# Altium schematic symbol library xbreak.SchLib: 28 symbols
Pins are listed as number, name and electrical type; pins without a type are passive.

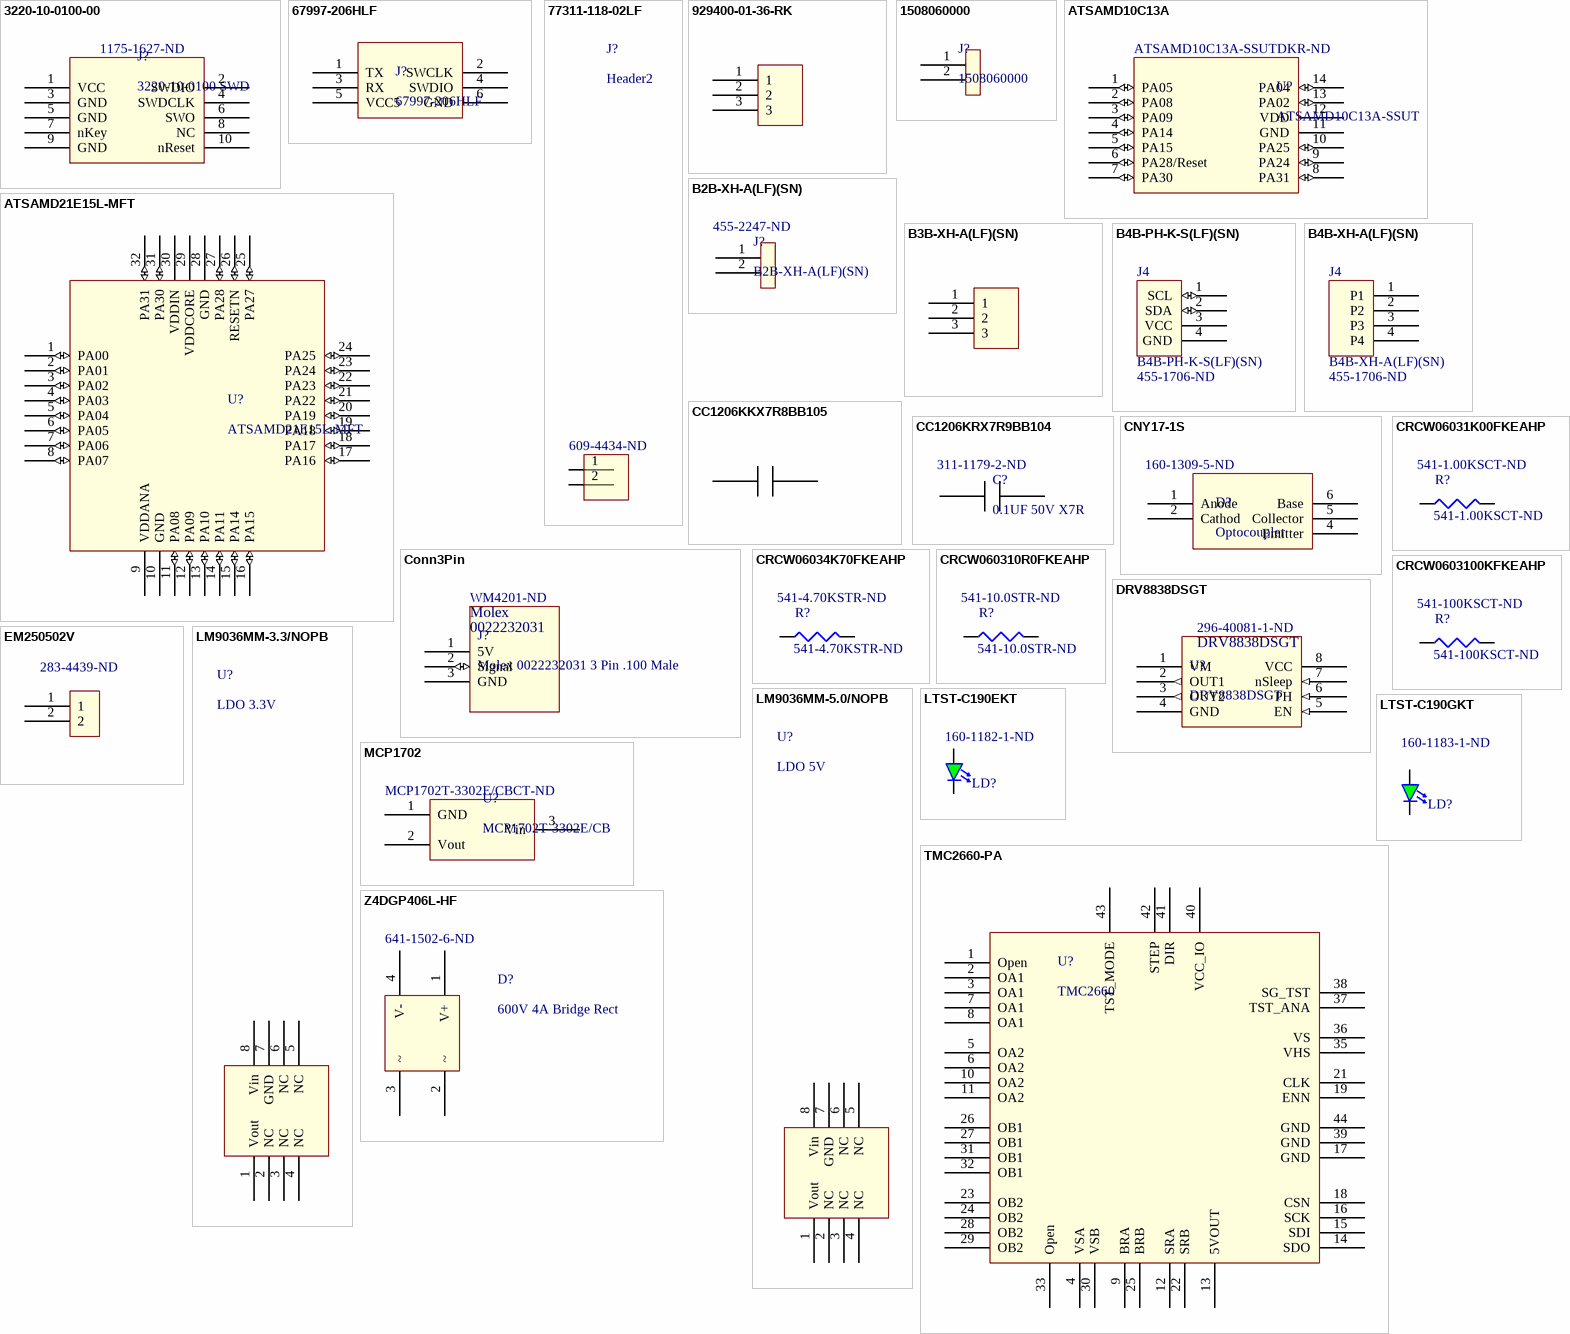
[diagram p0: symbols 3220-10-0100-00 to Z4DGP406L-HF]

## 3220-10-0100-00
designator J?, comment 3220-10-0100 SWD  Supplier Part Number 1: 1175-1627-ND
HiRose 3220-10-0100 BOX HEADER, 0.050 10 POS; Supplier 1: Digi-Key
footprint 3220-10-0100
pins: 1 VCC, 2 SWDIO "GND", 3 GND, 4 SWDCLK "GND", 5 GND, 6 SWO "SWD", 7 nKey, 8 NC, 9 GND, 10 nReset

## 67997-206HLF
designator J?
CONN HEADER 6POS .100 STR 15AU - Amphenol FCI 67997-206HLF; Supplier Part Number 1: 67997-206HLF
footprint 67997-206HLF
pins: 1 TX, 2 SWCLK, 3 RX, 4 SWDIO, 5 VCC5, 6 GND

## 77311-118-02LF
designator J?, comment Header2  Supplier Part Number 1: 609-4434-ND
CONN HEADER 2POS VERT T/H FCI 77311-118-02LF; Supplier 1: Digi-Key
footprint 77311-118-02LF (CONN HEADER 2POS VERT T/H)
pins: 1, 2

## 929400-01-36-RK
designator J?
3M 929400-01-36-RK CONN HEADER .100 SNGL STR 36POS - Use 3 Pin; Supplier 1: Digi-Key; Supplier Part Number 1: 929400E-01-36-ND
footprint 929400-01-36-RK (CONN HEADER .100 SNGL STR 36POS - 3 Positions Used)
pins: 1, 2 "1", 3 "1"

## 1508060000
designator J?
TERM BLOCK HDR 2POS R/A 5.08MM Weidmuller 1508060000; Supplier 1: Digi-Key; Supplier Part Number 1: 281-2920-ND
footprint 1508060000 (TERM BLOCK HDR 2POS R/A 5.08MM Weidmuller 1508060000)
pins: 1, 2

## ATSAMD10C13A
designator U?, comment ATSAMD10C13A-SSUT  Supplier Part Number 1: ATSAMD10C13A-SSUTDKR-ND
IC MCU 32BIT 8KB FLASH 14SOIC; Supplier 1: Digi-Key
footprint ATSAMD10C13A (SOIC, 14-Leads, Body 8.65x3.90mm, Pitch 1.27mm, Thermal Pad 4.00x3.00mm, IPC Medium Density)
pins: 1 PA05 (io), 2 PA08 (io), 3 PA09 (io), 4 PA14 (io), 5 PA15 (io), 6 PA28/Reset (io) "PA28/RESET", 7 PA30 (io), 8 PA31 (io), 9 PA24 (io), 10 PA25 (io), 11 GND (power), 12 VDD (power), 13 PA02 (io), 14 PA04 (io), 15 TPad hidden to GND

## ATSAMD21E15L-MFT
designator U?
IC MCU 32BIT 32KB FLASH 32QFN Atmel ATSAMD21E15L-MFT; Supplier Part Number 1: ATSAMD21E15L-MFT
footprint ATSAMD21E15L-MFT (Atmel QFN-32)
pins: 1 PA00 (io) "PA", 2 PA01 (io) "PA", 3 PA02 (io) "PA", 4 PA03 (io) "PA", 5 PA04 (io) "PA", 6 PA05 (io) "PA", 7 PA06 (io) "PA", 8 PA07 (io) "PA", 9 VDDANA (power), 10 GND (power), 11 PA08 (io) "PA", 12 PA09 (io) "PA", 13 PA10 (io) "PA", 14 PA11 (io) "PA", 15 PA14 (io) "PA", 16 PA15 (io) "PA", 17 PA16 (io) "PA", 18 PA17 (io) "PA", 19 PA18 (io) "PA", 20 PA19 (io) "PA", 21 PA22 (io) "PA", 22 PA23 (io) "PA", 23 PA24 (io) "PA", 24 PA25 (io) "PA", 25 PA27 (io) "PA", 26 RESETN (io), 27 PA28 (io) "PA", 28 GND (power), 29 VDDCORE (power), 30 VDDIN (power), 31 PA30 (io) "PA", 32 PA31 (io) "PA"

## B2B-XH-A(LF)(SN)
designator J?  Supplier Part Number 1: 455-2247-ND
CONN HEADER XH TOP 2POS 2.5MM  JST B2B-XH-A(LF)(SN); Supplier 1: Digi-Key
footprint 77311-118-02LF (CONN HEADER 2POS VERT T/H)
pins: 1, 2

## B3B-XH-A(LF)(SN)
designator J?, comment JST 3-PIN  Supplier Part Number 1: 455-2248-ND
CONN HEADER XH TOP 3POS 2.5MM JST B3B-XH-A(LF)(SN); Supplier 1: Digi-Key
footprint B3B-XH-A(LF)(SN) (CONN HEADER XH TOP 3POS 2.5MM)
pins: 1, 2 "1", 3 "1"

## B4B-PH-K-S(LF)(SN)
designator J4  Supplier Part Number 1: 455-1706-ND
Supplier 1: Digi-Key
footprint B4B-PH-K-S(LF)(SN) (B4B-PH-K-S(LF)(SN) 4 Pin JST Header)
pins: 1 SCL (io), 2 SDA (io), 3 VCC (power) "Power", 4 GND (power)

## B4B-XH-A(LF)(SN)
designator J4  Supplier Part Number 1: 455-1706-ND
CONN HEADER XH TOP 4POS 2.5MM JST B4B-XH-A(LF)(SN); Supplier 1: Digi-Key
footprint B4B-PH-K-S(LF)(SN) (B4B-PH-K-S(LF)(SN) 4 Pin JST Header)
pins: 1 P1, 2 P2, 3 P3, 4 P4

## CC1206KKX7R8BB105
designator C?, comment 1UF 25V X7R
CAP CER 1UF 25V X7R 1206 Yageo CC1206KKX7R8BB105; Supplier 1: Digi-Key; Supplier Part Number 1: 311-1356-2-ND
footprint C1206YageoX7R (Chip Capacitor, 2-Leads, Body 3.20x1.60mm, IPC Medium Density)
pins: 1, 2

## CC1206KRX7R9BB104
designator C?, comment 0.1UF 50V X7R  Supplier Part Number 1: 311-1179-2-ND
CAP CER 0.1UF 50V X7R 1206 YAGEO CC1206KRX7R9BB104; Supplier 1: Digi-Key
footprint C1206YageoX7R (Chip Capacitor, 2-Leads, Body 3.20x1.60mm, IPC Medium Density)
pins: 1, 2

## CNY17-1S
designator D?, comment Optocoupler  Supplier Part Number 1: 160-1309-5-ND
OPTOISO 5KV TRANS W/BASE 6SMD  Lite-On CNY17-1S; Supplier 1: Digi-Key
footprint CNY17-1S (Liteon 6SOT)
pins: 1 Anode, 2 Cathod, 3 NC hidden, 4 Emitter, 5 Collector, 6 Base

## Conn3Pin
designator J?, comment Molex 0022232031 3 Pin .100 Male  Supplier Part Number 1: WM4201-ND
Molex 3 Pin .100 With Retetion; Supplier 1: Digi-Key
footprint 022232031 (3 Pin .100 Pin Header  022232031)
pins: 1 5V (power) "VCC", 2 Signal (io), 3 GND (power) "Signal"
text: Molex; 0022232031

## CRCW06031K00FKEAHP
designator R?, comment 541-1.00KSCT-ND
Resistor 1K 1% 0603 CRCW06031K00FKEAHP; Published: 8-Jun-2000; LatestRevisionDate: 29-May-2009; LatestRevisionNote: IPC-7351 Footprint Added.; PackageReference: J1-0603; Publisher: Altium Limited; PackageDescription: Chip Resistor; Value: 1K; Supplier 1: Digi-Key; Supplier Part Number 1: 541-1.00KSCT-ND
footprint J1-0603 (Chip Resistor, Body 1.6x0.8mm, IPC High Density)
footprint 14-1210 (Chip Resistor, Body 3.2x2.5mm, IPC High Density)
footprint 12Z-2010 (Chip Resistor, Body 5.0x2.5mm, IPC High Density)
footprint RESC6332 (Chip Resistor, Body 6.3x3.2mm, IPC High Density)
simulation model RESISTOR (Resistor)
signal-integrity model Res
pins: 1, 2

## CRCW06034K70FKEAHP
designator R?, comment 541-4.70KSTR-ND
Resistor 4.7K 1% 0603 Vishay CRCW06034K70FKEAHP; Value: 1K; Published: 8-Jun-2000; LatestRevisionDate: 29-May-2009; LatestRevisionNote: IPC-7351 Footprint Added.; PackageReference: J1-0603; Publisher: Altium Limited; PackageDescription: Chip Resistor; Supplier 1: Digi-Key; Supplier Part Number 1: 541-4.70KSTR-ND
footprint J1-0603 (Chip Resistor, Body 1.6x0.8mm, IPC High Density)
simulation model RESISTOR (Resistor)
signal-integrity model Res
pins: 1, 2

## CRCW060310R0FKEAHP
designator R?, comment 541-10.0STR-ND
Resistor 10 1% 0603 Vishay CRCW060310R0FKEAHP; Value: 10; Published: 8-Jun-2000; LatestRevisionDate: 29-May-2009; LatestRevisionNote: IPC-7351 Footprint Added.; PackageReference: J1-0603; Publisher: Altium Limited; PackageDescription: Chip Resistor; Supplier 1: Digi-Key; Supplier Part Number 1: 541-10.0STR-ND
footprint J1-0603 (Chip Resistor, Body 1.6x0.8mm, IPC High Density)
simulation model RESISTOR (Resistor)
signal-integrity model Res
pins: 1, 2

## CRCW0603100KFKEAHP
designator R?, comment 541-100KSCT-ND
Resistor 100K 1% 0603 Vishay CRCW0603100KFKEAHP; Published: 8-Jun-2000; LatestRevisionDate: 29-May-2009; LatestRevisionNote: IPC-7351 Footprint Added.; PackageReference: J1-0603; Publisher: Altium Limited; PackageDescription: Chip Resistor; Value: 100K; Supplier 1: Digi-Key; Supplier Part Number 1: 541-100KSCT-ND
footprint J1-0603 (Chip Resistor, Body 1.6x0.8mm, IPC High Density)
simulation model RESISTOR (Resistor)
signal-integrity model Res
pins: 1, 2

## DRV8838DSGT
designator U?  Supplier Part Number 1: 296-40081-1-ND
IC BRIDGE DRIVER PAR 8WSON; Supplier 1: Digi-Key
footprint DRV8838DSGT (PSON, 8-Leads, Body 1.95x1.95mm, Pitch 0.50mm, Thermal Pad 1.60x0.67mm, IPC Medium Density)
pins: 1 VM (power) "Motor Power Input", 2 OUT1 (out) "Out1", 3 OUT2 (out) "Out2", 4 GND (power), 5 EN (in) "ENABLE", 6 PH (in) "Phase", 7 nSleep (in), 8 VCC (power), 9 Tpad hidden to GND

## EM250502V
designator J?  Supplier Part Number 1: 283-4439-ND
TERM BLOCK 16A 300V 12-26AWG Eaton Bussman EM250502V; Supplier 1: Digi-Key
footprint EM250502V
pins: 1, 2 "1"

## LM9036MM-3.3/NOPB
designator U?, comment LDO 3.3V
IC REG LDO 3.3V 50MA 8VSSOP  Texas Instruments LM9036MM-3.3/NOPB
footprint SOP127P600-8N
pins: 1 Vout, 2 NC, 3 NC, 4 NC, 5 NC, 6 NC, 7 GND, 8 Vin "40V Input"

## LM9036MM-5.0/NOPB
designator U?, comment LDO 5V
IC REG LDO 5V 50MA 8VSSOP  Texas Instruments LM9036MM-5.0/NOPB
footprint SOP127P600-8N
pins: 1 Vout, 2 NC, 3 NC, 4 NC, 5 NC, 6 NC, 7 GND, 8 Vin "40V Input"

## LTST-C190EKT
designator LD?, comment Supplier Part Number 1: 160-1182-1-ND  (hidden comment: RED)
LED RED CLEAR 0603 SMD LITE-ON LTST-C190EKT; Supplier 1: Digi-Key
footprint LED0603
pins: 1 A, 2 K

## LTST-C190GKT
designator LD?, comment Supplier Part Number 1: 160-1183-1-ND  (hidden comment: GREEN)
LED GREEN CLEAR 0603 SMD LITE-ON LTST-C190EKT; Supplier 1: Digi-Key
footprint LED0603
pins: 1 A, 2 K

## MCP1702
designator U?, comment MCP1702T-3302E/CB  Supplier Part Number 1: MCP1702T-3302E/CBCT-ND
IC REG LDO 3.3V 0.25A SOT23A-3 Microchip MCP1702T-3302E/CB; Supplier 1: Digi-Key
footprint MCP1702-SOT-23A
pins: 1 GND (power), 2 Vout (power), 3 Vin (power)

## TMC2660-PA
designator U?, comment TMC2660
Trnamic TMC2660-PA Stepper Driver - QFP-44; Supplier Part Number 1: TMC2660-PA
footprint TQFP80P1300X1300X160-44N (TQFP, 44-Leads, Body 10.00x10.00mm, Pitch 0.80mm, IPC Medium Density)
footprint TMC2660 (TQFP, 44-Leads, Body 10.00x10.00mm, Pitch 0.80mm, IPC Medium Density)
pins: 1 Open, 2 OA1 "Bridge A1 Output", 3 OA1 "Bridge A1 Output", 4 VSA, 5 OA2 "Bridge A2 Output", 6 OA2 "Bridge A2 Output", 7 OA1 "Bridge A1 Output", 8 OA1 "Bridge A1 Output", 9 BRA, 10 OA2 "Bridge A2 Output", 11 OA2 "Bridge A2 Output", 12 SRA, 13 5VOUT, 14 SDO "SPI Serial Data Output", 15 SDI "SPI Serial Data Input", 16 SCK "SPI Serial Clock", 17 GND, 18 CSN "SPI CS", 19 ENN "Stepper Enable", 21 CLK, 22 SRB, 23 OB2 "Bridge B2 Output", 24 OB2 "Bridge B2 Output", 25 BRB, 26 OB1 "Bridge B1 Output", 27 OB1 "Bridge B1 Output", 28 OB2 "Bridge B2 Output", 29 OB2 "Bridge B2 Output", 30 VSB, 31 OB1 "Bridge B1 Output", 32 OB1 "Bridge B1 Output", 33 Open, 35 VHS "VS", 36 VS, 37 TST_ANA "TST_ANA Reserved", 38 SG_TST "Stall Guard Output", 39 GND, 40 VCC_IO "VCC IO Input", 41 DIR "VCC IO Input", 42 STEP, 43 TST_MODE, 44 GND

## Z4DGP406L-HF
designator D?, comment 600V 4A Bridge Rect  Supplier Part Number 1: 641-1502-6-ND
RECT BRIDGE GP 600V 4A Z4-D ComChip Z4DGP406L-HF; Supplier 1: Digi-Key
footprint Z4DGP406L-HF (DFN, 4-Leads, Body 8.10x10.50mm, Pitch 10.50mm, IPC Medium Density)
pins: 1 V+, 2 ~, 3 ~, 4 V-